# Altium footprint library TDK Corporation.PcbLib: 33 footprints (part 2 of 3)
Each footprint in its own frame and in the unit in brackets; x right, y up, seen from the top. Pads: shape width x height; smd on the part's side, far side on the other; paste and mask are expansions set on the pad; w line width, h text height; cw(c..) or ccw(c..) is an arc to the next point about the centre after c.
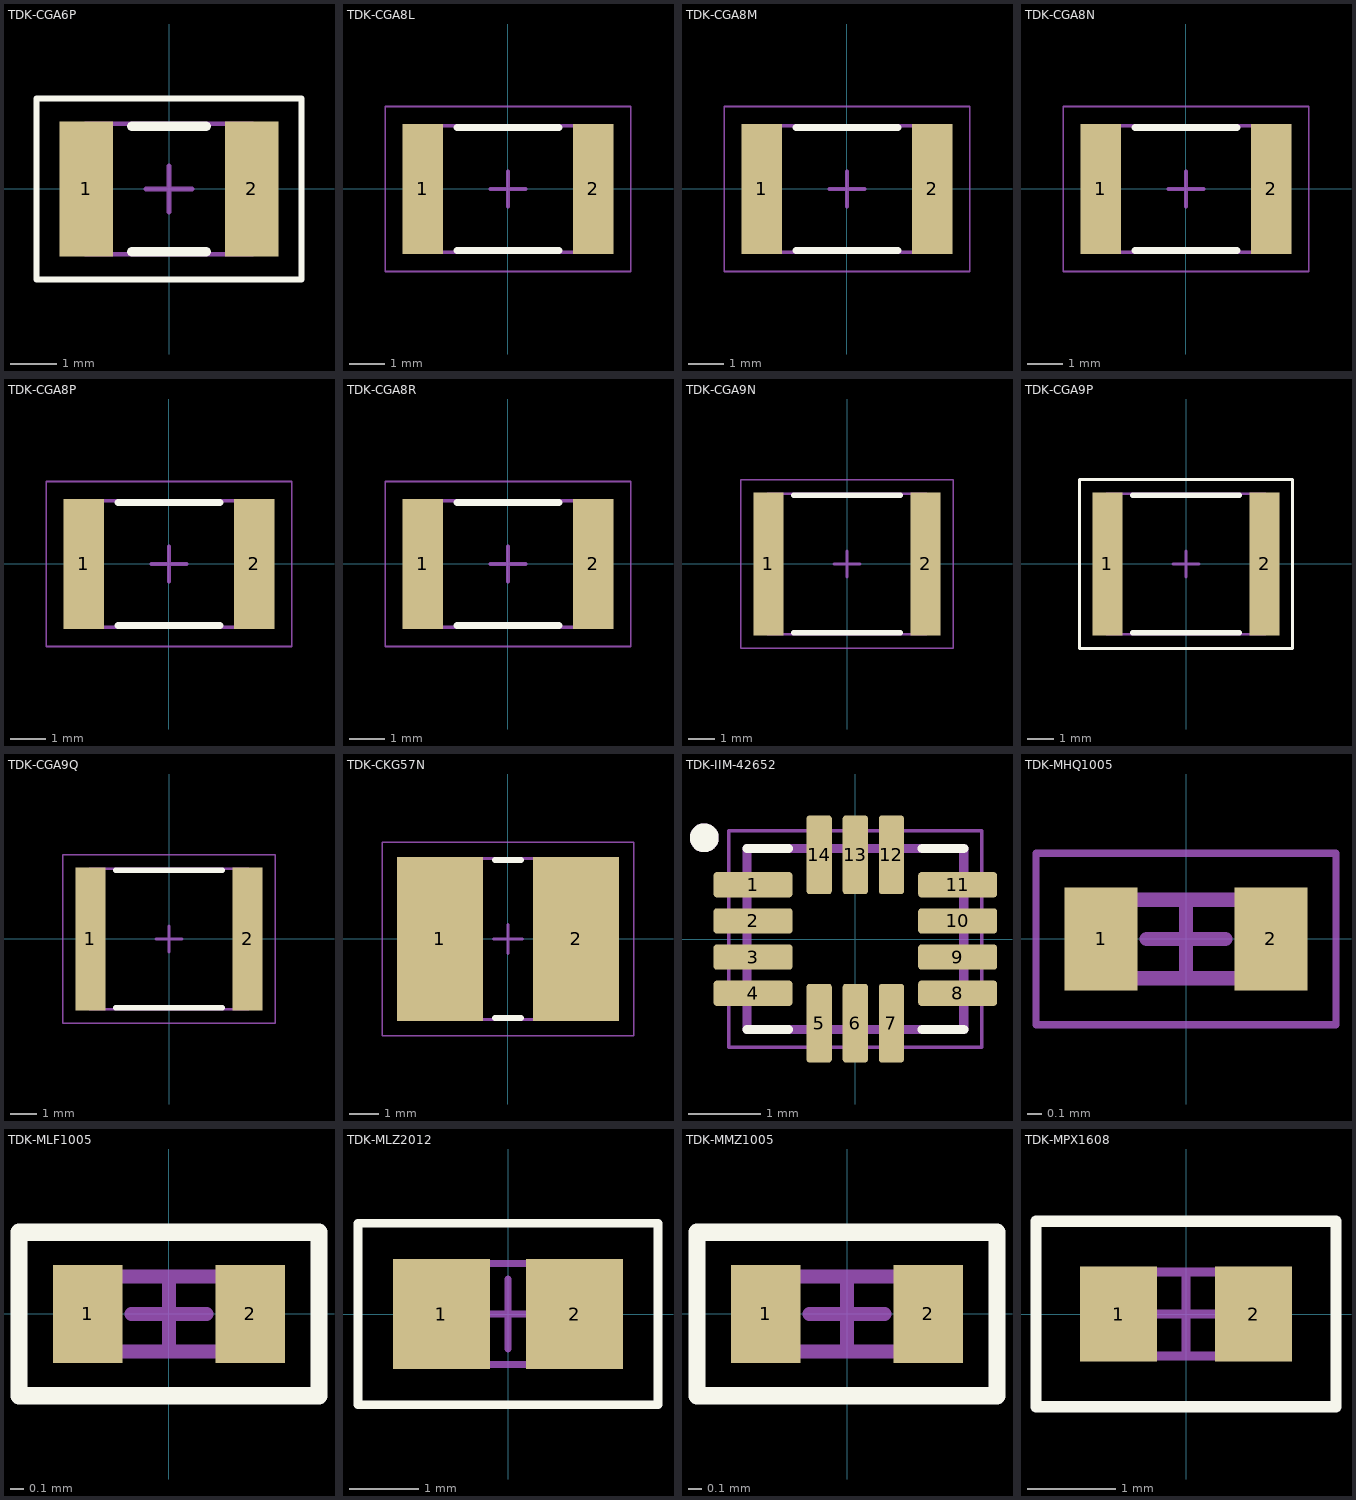
[diagram p1: the footprints below, top view; thin cyan lines are the x and y axes]

## TDK-CGA6P [mm] "Chip Capacitor, 2-Leads, Body 3.20x2.50mm, IPC Low Density"
height 2.5
pads (2):
  rect 1.15x2.9 smd: 1(-1.775,0) 2(1.775,0)
Top Overlay:
  lines w0.127: -2.85,-1.95 -2.85,1.95 2.85,1.95 2.85,-1.95 -2.85,-1.95
  lines w0.2: -0.8,-1.35 0.8,-1.35 ; -0.8,1.35 0.8,1.35
Mechanical 13:
  lines w0.1: -1.8,-1.4 -1.8,1.4 1.8,1.4 1.8,-1.4 -1.8,-1.4
Mechanical 15:
  lines w0.05: -2.85,-1.95 2.85,-1.95 2.85,1.95 -2.85,1.95 -2.85,-1.95
  lines w0.1: -0.5,0 0.5,0 ; 0,-0.5 0,0.5
3D body: height 2.5, standoff 0, extent -1.6,-1.4 1.6,1.4
3D body: height 2.5, standoff 0, extent -1.8,-1.4 -1.6,1.4
3D body: height 2.5, standoff 0, extent 1.6,-1.4 1.8,1.4

## TDK-CGA8L [mm] "Chip Capacitor, 2-Leads, Body 4.50x3.20mm, IPC Low Density"
height 1.6
pads (2):
  rect 1.15x3.7 smd: 1(-2.425,0) 2(2.425,0)
Top Overlay:
  lines w0.2: -1.45,-1.75 1.45,-1.75 ; -1.45,1.75 1.45,1.75
Mechanical 13:
  lines w0.1: -2.45,-1.8 2.45,-1.8 2.45,1.8 -2.45,1.8 -2.45,-1.8
Mechanical 15:
  lines w0.05: -3.5,-2.35 3.5,-2.35 3.5,2.35 -3.5,2.35 -3.5,-2.35
  lines w0.1: -0.5,0 0.5,0 ; 0,-0.5 0,0.5
3D body: height 1.6, standoff 0, extent 2.25,-1.8 2.45,1.8
3D body: height 1.6, standoff 0, extent -2.45,-1.8 -2.25,1.8
3D body: height 1.6, standoff 0, extent -2.25,-1.8 2.25,1.8

## TDK-CGA8M [mm] "Chip Capacitor, 2-Leads, Body 4.50x3.20mm, IPC Low Density"
height 2
pads (2):
  rect 1.15x3.7 smd: 1(-2.425,0) 2(2.425,0)
Top Overlay:
  lines w0.2: -1.45,-1.75 1.45,-1.75 ; -1.45,1.75 1.45,1.75
Mechanical 13:
  lines w0.1: -2.45,-1.8 -2.45,1.8 2.45,1.8 2.45,-1.8 -2.45,-1.8
Mechanical 15:
  lines w0.05: -3.5,-2.35 -3.5,2.35 3.5,2.35 3.5,-2.35 -3.5,-2.35
  lines w0.1: -0.5,0 0.5,0 ; 0,-0.5 0,0.5
3D body: height 2, standoff 0, extent -2.25,-1.8 2.25,1.8
3D body: height 2, standoff 0, extent -2.45,-1.8 -2.25,1.8
3D body: height 2, standoff 0, extent 2.25,-1.8 2.45,1.8

## TDK-CGA8N [mm] "Chip Capacitor, 2-Leads, Body 4.50x3.20mm, IPC Low Density"
height 2.3
pads (2):
  rect 1.15x3.7 smd: 1(-2.425,0) 2(2.425,0)
Top Overlay:
  lines w0.2: -1.45,-1.75 1.45,-1.75 ; -1.45,1.75 1.45,1.75
Mechanical 13:
  lines w0.1: -2.45,-1.8 -2.45,1.8 2.45,1.8 2.45,-1.8 -2.45,-1.8
Mechanical 15:
  lines w0.05: -3.5,-2.35 -3.5,2.35 3.5,2.35 3.5,-2.35 -3.5,-2.35
  lines w0.1: -0.5,0 0.5,0 ; 0,-0.5 0,0.5
3D body: height 2.3, standoff 0, extent -2.25,-1.8 2.25,1.8
3D body: height 2.3, standoff 0, extent -2.45,-1.8 -2.25,1.8
3D body: height 2.3, standoff 0, extent 2.25,-1.8 2.45,1.8

## TDK-CGA8P [mm] "Chip Capacitor, 2-Leads, Body 4.50x3.20mm, IPC Low Density"
height 2.5
pads (2):
  rect 1.15x3.7 smd: 1(-2.425,0) 2(2.425,0)
Top Overlay:
  lines w0.2: -1.45,-1.75 1.45,-1.75 ; -1.45,1.75 1.45,1.75
Mechanical 13:
  lines w0.1: -2.45,-1.8 2.45,-1.8 2.45,1.8 -2.45,1.8 -2.45,-1.8
Mechanical 15:
  lines w0.05: -3.5,-2.35 3.5,-2.35 3.5,2.35 -3.5,2.35 -3.5,-2.35
  lines w0.1: -0.5,0 0.5,0 ; 0,-0.5 0,0.5
3D body: height 2.5, standoff 0, extent 2.25,-1.8 2.45,1.8
3D body: height 2.5, standoff 0, extent -2.45,-1.8 -2.25,1.8
3D body: height 2.5, standoff 0, extent -2.25,-1.8 2.25,1.8

## TDK-CGA8R [mm] "Chip Capacitor, 2-Leads, Body 4.50x3.20mm, IPC Low Density"
height 3.2
pads (2):
  rect 1.15x3.7 smd: 1(-2.425,0) 2(2.425,0)
Top Overlay:
  lines w0.2: -1.45,-1.75 1.45,-1.75 ; -1.45,1.75 1.45,1.75
Mechanical 13:
  lines w0.1: -2.45,-1.8 2.45,-1.8 2.45,1.8 -2.45,1.8 -2.45,-1.8
Mechanical 15:
  lines w0.05: -3.5,-2.35 3.5,-2.35 3.5,2.35 -3.5,2.35 -3.5,-2.35
  lines w0.1: -0.5,0 0.5,0 ; 0,-0.5 0,0.5
3D body: height 3.2, standoff 0, extent 2.25,-1.8 2.45,1.8
3D body: height 3.2, standoff 0, extent -2.45,-1.8 -2.25,1.8
3D body: height 3.2, standoff 0, extent -2.25,-1.8 2.25,1.8

## TDK-CGA9N [mm] "Chip Capacitor, 2-Leads, Body 5.70x5.00mm, IPC Low Density"
height 2.3
pads (2):
  rect 1.15x5.5 smd: 1(-3.025,0) 2(3.025,0)
Top Overlay:
  lines w0.2: -2.05,-2.65 2.05,-2.65 ; -2.05,2.65 2.05,2.65
Mechanical 13:
  lines w0.1: -3.05,-2.7 3.05,-2.7 3.05,2.7 -3.05,2.7 -3.05,-2.7
Mechanical 15:
  lines w0.05: -4.1,-3.25 4.1,-3.25 4.1,3.25 -4.1,3.25 -4.1,-3.25
  lines w0.1: -0.5,0 0.5,0 ; 0,-0.5 0,0.5
3D body: height 2.3, standoff 0, extent 2.85,-2.7 3.05,2.7
3D body: height 2.3, standoff 0, extent -3.05,-2.7 -2.85,2.7
3D body: height 2.3, standoff 0, extent -2.85,-2.7 2.85,2.7

## TDK-CGA9P [mm] "Chip Capacitor, 2-Leads, Body 5.70x5.00mm, IPC Low Density"
height 2.8
pads (2):
  rect 1.15x5.5 smd: 1(-3.025,0) 2(3.025,0)
Top Overlay:
  lines w0.127: -4.1,-3.25 -4.1,3.25 4.1,3.25 4.1,-3.25 -4.1,-3.25
  lines w0.2: -2.05,-2.65 2.05,-2.65 ; -2.05,2.65 2.05,2.65
Mechanical 13:
  lines w0.1: -3.05,-2.7 -3.05,2.7 3.05,2.7 3.05,-2.7 -3.05,-2.7
Mechanical 15:
  lines w0.05: -4.1,-3.25 4.1,-3.25 4.1,3.25 -4.1,3.25 -4.1,-3.25
  lines w0.1: -0.5,0 0.5,0 ; 0,-0.5 0,0.5
3D body "TDK-CGA9P.step": height 2.8, standoff 0, extent -3.05,-2.7 3.05,2.7

## TDK-CGA9Q [mm] "Chip Capacitor, 2-Leads, Body 5.70x5.00mm, IPC Low Density"
height 2.8
pads (2):
  rect 1.15x5.5 smd: 1(-3.025,0) 2(3.025,0)
Top Overlay:
  lines w0.2: -2.05,-2.65 2.05,-2.65 ; -2.05,2.65 2.05,2.65
Mechanical 13:
  lines w0.1: -3.05,-2.7 3.05,-2.7 3.05,2.7 -3.05,2.7 -3.05,-2.7
Mechanical 15:
  lines w0.05: -4.1,-3.25 4.1,-3.25 4.1,3.25 -4.1,3.25 -4.1,-3.25
  lines w0.1: -0.5,0 0.5,0 ; 0,-0.5 0,0.5
3D body: height 2.8, standoff 0, extent 2.85,-2.7 3.05,2.7
3D body: height 2.8, standoff 0, extent -3.05,-2.7 -2.85,2.7
3D body: height 2.8, standoff 0, extent -2.85,-2.7 2.85,2.7

## TDK-CKG57N [mm] "Chip Capacitor, 2-Leads, Body 6.00x5.00mm, IPC Low Density"
height 5.5
pads (2):
  rect 2.95x5.6 smd: 1(-2.325,0) 2(2.325,0)
Top Overlay:
  lines w0.2: -0.45,-2.7 0.45,-2.7 ; -0.45,2.7 0.45,2.7
Top Assembly:
  lines w0.1: -3.25,-2.75 -3.25,2.75 3.25,2.75 3.25,-2.75 -3.25,-2.75
Top Courtyard:
  lines w0.05: -4.3,-3.3 -4.3,3.3 4.3,3.3 4.3,-3.3 -4.3,-3.3
  lines w0.1: -0.5,0 0.5,0 ; 0,-0.5 0,0.5
3D body "TDK-CKG57N.step": height 5.5, standoff 0, extent -3.25,-2.75 3.25,2.75

## TDK-IIM-42652 [mm]
pads (14):
  rrect25% 1.09x0.35 smd: 1(-1.415,0.75) 2(-1.415,0.25) 3(-1.415,-0.25) 4(-1.415,-0.75) 8(1.415,-0.75) 9(1.415,-0.25) 10(1.415,0.25) 11(1.415,0.75)
  rrect25% 0.35x1.09 smd: 5(-0.5,-1.165) 6(0,-1.165) 7(0.5,-1.165) 12(0.5,1.165) 13(0,1.165) 14(-0.5,1.165)
Top Overlay:
  circle w0.2: c-2.09,1.4 r0.1
  lines w0.127: -1.5,-1.25 -0.925,-1.25 ; -1.5,1.25 -0.925,1.25 ; 0.925,-1.25 1.5,-1.25 ; 0.925,1.25 1.5,1.25
Mechanical 13:
  circle w0.2: c-2.09,1.4 r0.1
  lines w0.127: -1.5,-1.25 -1.5,1.25 1.5,1.25 1.5,-1.25 -1.5,-1.25
Mechanical 15:
  lines w0.05: -1.75,-1.5 -1.75,1.5 1.75,1.5 1.75,-1.5 -1.75,-1.5
3D body "step_temp.STEP": height 0.97, standoff 0, extent -1.5,-1.25 1.5,1.25

## TDK-MHQ1005 [mm] "Chip Inductor, 2-Leads, Body 1.00x0.50mm, IPC Low Density"
height 0.5
pads (2):
  rect 0.51x0.72 smd: 1(-0.595,0) 2(0.595,0)
Mechanical 13:
  lines w0.1: -0.525,-0.275 -0.525,0.275 0.525,0.275 0.525,-0.275 -0.525,-0.275
Mechanical 15:
  lines w0.05: -1.05,-0.6 -1.05,0.6 1.05,0.6 1.05,-0.6 -1.05,-0.6
  lines w0.1: -0.275,0 0.275,0 ; 0,-0.275 0,0.275
3D body "TDK-MHQ1005.step": height 0.5, standoff 0, extent -0.525,-0.275 0.525,0.275

## TDK-MLF1005 [mm] "Chip Inductor, 2-Leads, Body 1.00x0.50mm, IPC Low Density"
height 0.55
pads (2):
  rect 0.51x0.72 smd: 1(-0.595,0) 2(0.595,0)
Top Overlay:
  lines w0.127: -1.1,-0.6 1.1,-0.6 1.1,0.6 -1.1,0.6 -1.1,-0.6
Mechanical 13:
  lines w0.1: -0.525,-0.275 0.525,-0.275 0.525,0.275 -0.525,0.275 -0.525,-0.275
Mechanical 15:
  lines w0.05: -1.1,-0.6 -1.1,0.6 1.1,0.6 1.1,-0.6 -1.1,-0.6
  lines w0.1: -0.275,0 0.275,0 ; 0,-0.275 0,0.275
3D body "TDK-MLF1005.step": height 0.55, standoff 0, extent -0.525,-0.275 0.525,0.275

## TDK-MLZ2012 [mm] "Chip Inductor, 2-Leads, Body 2.00x1.25mm, IPC Low Density"
height 1.45
pads (2):
  rect 1.39x1.57 smd: 1(-0.955,0) 2(0.955,0)
Top Overlay:
  lines w0.127: -2.15,-1.3 2.15,-1.3 2.15,1.3 -2.15,1.3 -2.15,-1.3
Mechanical 13:
  lines w0.1: -1.1,-0.725 1.1,-0.725 1.1,0.725 -1.1,0.725 -1.1,-0.725
Mechanical 15:
  lines w0.05: -2.15,-1.3 2.15,-1.3 2.15,1.3 -2.15,1.3 -2.15,-1.3
  lines w0.1: -0.5,0 0.5,0 ; 0,-0.5 0,0.5
3D body "TDK-MLZ2012.step": height 1.45, standoff 0, extent -1.1,-0.725 1.1,0.725

## TDK-MMZ1005 [mm] "Chip Inductor, 2-Leads, Body 1.00x0.50mm, IPC Low Density"
height 0.55
pads (2):
  rect 0.51x0.72 smd: 1(-0.595,0) 2(0.595,0)
Top Overlay:
  lines w0.127: -1.1,-0.6 -1.1,0.6 1.1,0.6 1.1,-0.6 -1.1,-0.6
Mechanical 13:
  lines w0.1: -0.525,-0.275 0.525,-0.275 0.525,0.275 -0.525,0.275 -0.525,-0.275
Mechanical 15:
  lines w0.05: -1.1,-0.6 1.1,-0.6 1.1,0.6 -1.1,0.6 -1.1,-0.6
  lines w0.1: -0.275,0 0.275,0 ; 0,-0.275 0,0.275
3D body "TDK-MMZ1005.step": height 0.55, standoff 0, extent -0.525,-0.275 0.525,0.275

## TDK-MPX1608 [mm] "Chip Inductor, 2-Leads, Body 1.60x0.80mm, IPC Low Density"
height 0.75
pads (2):
  rect 0.87x1.08 smd: 1(-0.765,0) 2(0.765,0)
Top Overlay:
  lines w0.127: -1.7,-1.05 1.7,-1.05 1.7,1.05 -1.7,1.05 -1.7,-1.05
Mechanical 13:
  lines w0.1: -0.875,-0.475 0.875,-0.475 0.875,0.475 -0.875,0.475 -0.875,-0.475
Mechanical 15:
  lines w0.05: -1.7,-1.05 1.7,-1.05 1.7,1.05 -1.7,1.05 -1.7,-1.05
  lines w0.1: -0.475,0 0.475,0 ; 0,-0.475 0,0.475
3D body: height 0.75, standoff 0, extent 0.575,-0.475 0.875,0.475
3D body: height 0.75, standoff 0, extent -0.875,-0.475 -0.575,0.475
3D body: height 0.75, standoff 0, extent -0.575,-0.475 0.575,0.475